# EAGLE library part M5STACK-GPIO (library GPIO)
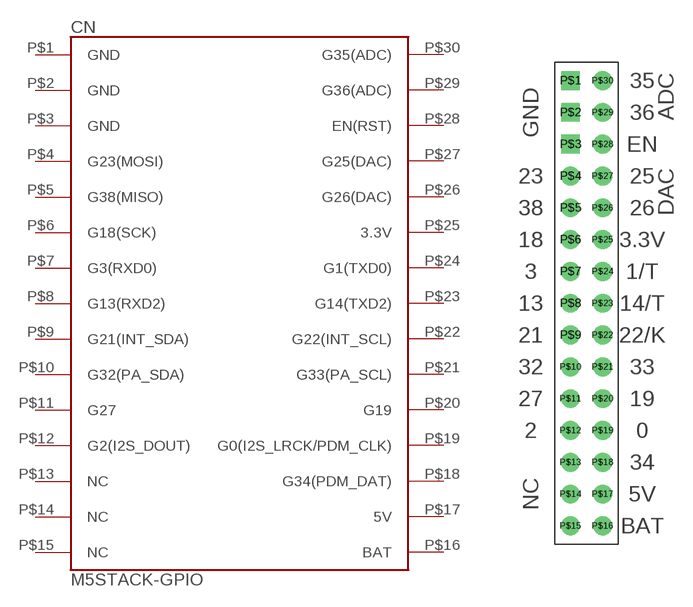
[diagram p1: symbol with the pads of M5STACK-GPIO; footprint M5STACK-GPIO]

Designator prefix CN

## M5STACK-GPIO  [M5STACK-GPIO]
P$1  GND
P$2  GND
P$3  GND
P$4  G23(MOSI)
P$5  G38(MISO)
P$6  G18(SCK)
P$7  G3(RXD0)
P$8  G13(RXD2)
P$9  G21(INT_SDA)
P$10  G32(PA_SDA)
P$11  G27
P$12  G2(I2S_DOUT)
P$13  NC
P$14  NC
P$15  NC
P$16  BAT
P$17  5V
P$18  G34(PDM_DAT)
P$19  G0(I2S_LRCK/PDM_CLK)
P$20  G19
P$21  G33(PA_SCL)
P$22  G22(INT_SCL)
P$23  G14(TXD2)
P$24  G1(TXD0)
P$25  3.3V
P$26  G26(DAC)
P$27  G25(DAC)
P$28  EN(RST)
P$29  G36(ADC)
P$30  G35(ADC)

## Footprint M5STACK-GPIO (pad centres in mm)
drill 1 square: P$1 -1.28,17.78; P$2 -1.28,15.24; P$3 -1.28,12.7
drill 1: P$4 -1.28,10.16; P$5 -1.28,7.62; P$6 -1.28,5.08; P$7 -1.28,2.54; P$8 -1.28,0; P$9 -1.28,-2.54; P$10 -1.28,-5.08; P$11 -1.28,-7.62; P$12 -1.28,-10.16; P$13 -1.28,-12.7; P$14 -1.28,-15.24; P$15 -1.28,-17.78; P$16 1.28,-17.78; P$17 1.28,-15.24; P$18 1.28,-12.7; P$19 1.28,-10.16; P$20 1.28,-7.62; P$21 1.28,-5.08; P$22 1.28,-2.54; P$23 1.28,0; P$24 1.28,2.54; P$25 1.28,5.08; P$26 1.28,7.62; P$27 1.28,10.16; P$28 1.28,12.7; P$29 1.28,15.24; P$30 1.28,17.78